# Altium footprint library GrandPrieeePcb.PcbLib: 10 footprints
Each footprint in its own frame and in the unit in brackets; x right, y up, seen from the top. Pads: shape width x height; smd on the part's side, far side on the other; paste and mask are expansions set on the pad; w line width, h text height; cw(c..) or ccw(c..) is an arc to the next point about the centre after c.
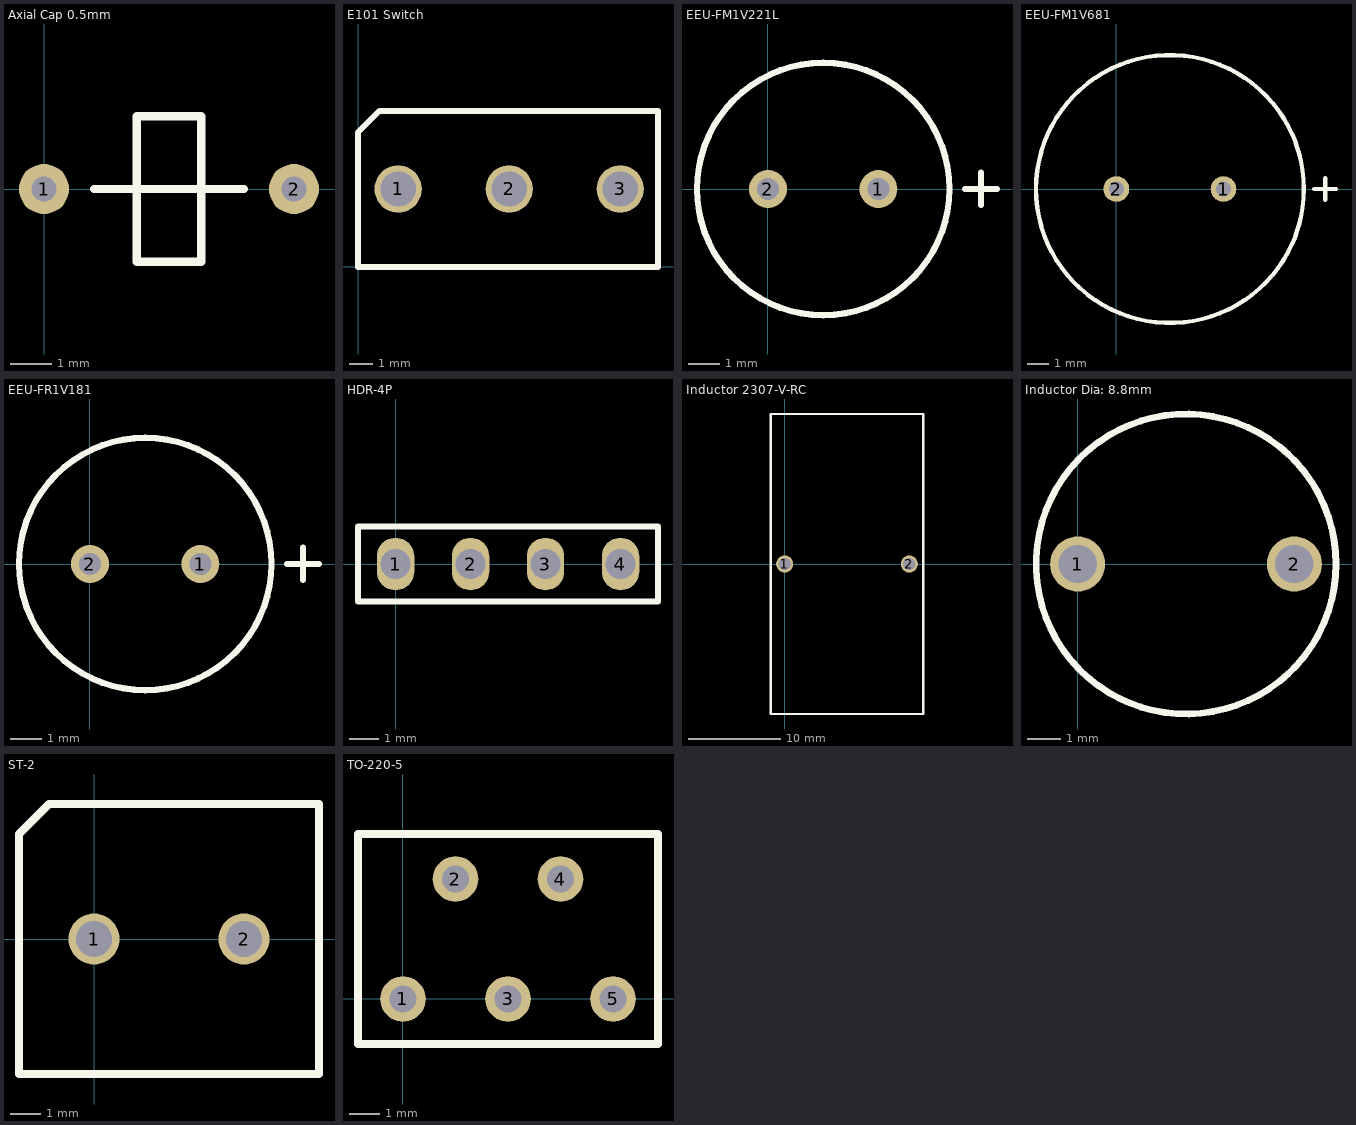
[diagram p0: the footprints below, top view; thin cyan lines are the x and y axes]

## Axial Cap 0.5mm [mm]
pads (2):
  round 1.2 hole 0.6: 1(0,0) 2(6,0)
Top Overlay:
  lines w0.2: 1.2,0 3.775,0 ; 2.225,0 4.8,0 ; 3.775,0 3.775,1.75 2.225,1.75 2.225,-1.75 3.775,-1.75 3.775,0

## E101 Switch [mm]
pads (3):
  round 2 hole 1.5: 1(1.7,3.3) 2(6.4,3.3) 3(11.1,3.3)
Top Overlay:
  lines w0.254: 0,0 0,5.7 0.9,6.6 12.7,6.6 12.7,0 0,0

## EEU-FM1V221L [mm]
pads (2):
  round 1.2 hole 0.7: 1(3.5,0) 2(0,0)
Top Overlay:
  circle w0.2: c1.75,0 r4
  lines w0.2: 6.242,0 7.258,0 ; 6.75,-0.5 6.75,0.516

## EEU-FM1V681 [mm]
pads (2):
  round 1.2 hole 0.7: 1(5,0) 2(0,0)
Top Overlay:
  circle w0.2: c2.5,0 r6.25
  lines w0.2: 9.234,0 10.25,0 ; 9.75,-0.508 9.75,0.508

## EEU-FR1V181 [mm]
pads (2):
  round 1.2 hole 0.7: 1(3.5,0) 2(0,0)
Top Overlay:
  circle w0.2: c1.75,0 r4
  lines w0.2: 6.242,0 7.258,0 ; 6.75,-0.5 6.75,0.516

## HDR-4P [mil]
pads (4):
  oval 50x70 hole 40: 1(0,0) 2(100,0) 3(200,0) 4(300,0)
Top Overlay:
  lines w8: -50,-50 -50,50 350,50 350,-50 -50,-50

## Inductor 2307-V-RC [mm]
pads (2):
  round 1.85 hole 1.35: 1(0,0) 2(13.5,0)
Top Overlay:
  lines w0.254: -1.5,-16.25 15,-16.25 15,16.25 -1.5,16.25 -1.5,-16.25

## Inductor Dia: 8.8mm [mm]
pads (2):
  round 1.65 hole 1.15: 1(0,0) 2(6.5,0)
Top Overlay:
  circle w0.2: c3.25,0 r4.5

## ST-2 [mm] "2 Port Screw Terminal"
pads (2):
  round 1.7 hole 1.2: 1(0,0) 2(5,0)
Top Overlay:
  lines w0.254: -2.5,-4.5 -2.5,3.5 -1.5,4.5 7.5,4.5 7.5,-4.5 -2.5,-4.5

## TO-220-5 [mm] "TO-220-5"
pads (5):
  round 1.524 hole 0.89: 1(0,0) 2(1.75,4) 3(3.5,0) 4(5.25,4) 5(7,0)
Top Overlay:
  lines w0.254: -1.5,-1.5 -1.5,5.5 8.5,5.5 8.5,-1.5 -1.5,-1.5